# Altium schematic symbol library JLCPCB_RES_SMD_Basic.SchLib: 104 symbols (part 1 of 2)
Pins are listed as number, name and electrical type; pins without a type are passive.

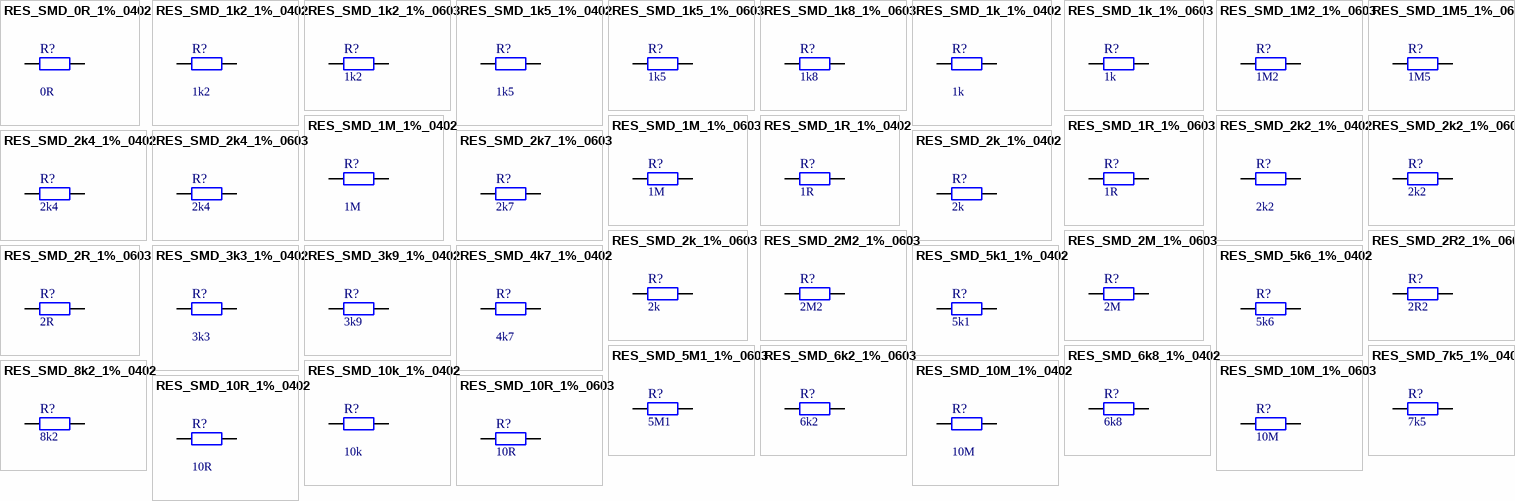
[diagram p0: symbols RES_SMD_0R_1%_0402 to RES_SMD_10R_1%_0603]

## RES_SMD_0R_1%_0402
designator R?, comment value 0R  (hidden comment: basic)
0Ohms ±1% 1/16W 0402 Chip Resistor - Surface Mount RoHS; MFR_Part#: 0402WGF0000TCE; MFR_Name: Uniroyal Elec; Voltage: max: 50V; In stock: Yes; Voltage: overvoltage: 100V; Rated current of jumper: 1A; Rated current max of jumper: 2A; ComponentLink1Description: Datasheet; ComponentLink1URL: https://datasheet.lcsc.com/szlcsc/Uniroyal-Elec-0402WGF0000TCE_C17168.pdf; Power rating: 1/16W; LCSC_Part#: C17168; Tolerance: 1%; Package: 0402
footprint RES_0402_REFLOW (Chip Resistor, 2-Leads, Body 1,00x0,50mm, IPC Medium Density)
pins: 1, 2

## RES_SMD_1k2_1%_0402
designator R?, comment value 1k2  (hidden comment: basic)
1.2kOhms ±1% 1/16W 0402 Chip Resistor - Surface Mount RoHS; MFR_Part#: 0402WGF1201TCE; MFR_Name: Uniroyal Elec; Voltage: max: 50V; In stock: Yes; Voltage: overvoltage: 100V; Rated current of jumper: 1A; Rated current max of jumper: 2A; ComponentLink1Description: Datasheet; ComponentLink1URL: https://datasheet.lcsc.com/szlcsc/Uniroyal-Elec-0402WGF1201TCE_C25862.pdf; Power rating: 1/16W; Tolerance: 1%; Package: 0402; LCSC_Part#: C25862
footprint RES_0402_REFLOW (Chip Resistor, 2-Leads, Body 1,00x0,50mm, IPC Medium Density)
pins: 1, 2

## RES_SMD_1k2_1%_0603
designator R?, comment value 1k2  (hidden comment: basic)
1.2kOhms ±1% 1/10W 0603 Chip Resistor - Surface Mount RoHS; MFR_Part#: 0603WAF1201T5E; MFR_Name: Uniroyal Elec; Voltage: max: 50V; In stock: Yes; Voltage: overvoltage: 100V; Rated current of jumper: 1A; Rated current max of jumper: 2A; ComponentLink1Description: Datasheet; ComponentLink1URL: https://datasheet.lcsc.com/szlcsc/Uniroyal-Elec-0603WAF1201T5E_C22765.pdf; Power rating: 1/10W; Tolerance: 1%; Package: 0603; LCSC_Part#: C22765
footprint RES_0603_REFLOW (Chip Resistor, 2-Leads, Body 1,55x0,85mm, IPC Medium Density)
pins: 1, 2

## RES_SMD_1k5_1%_0402
designator R?, comment value 1k5  (hidden comment: basic)
1.5kOhms ±1% 1/16W 0402 Chip Resistor - Surface Mount RoHS; MFR_Part#: 0402WGF1501TCE; MFR_Name: Uniroyal Elec; Voltage: max: 50V; In stock: Yes; Voltage: overvoltage: 100V; Rated current of jumper: 1A; Rated current max of jumper: 2A; ComponentLink1Description: Datasheet; ComponentLink1URL: https://datasheet.lcsc.com/szlcsc/Uniroyal-Elec-0402WGF1501TCE_C25867.pdf; Power rating: 1/16W; Tolerance: 1%; Package: 0402; LCSC_Part#: C25867
footprint RES_0402_REFLOW (Chip Resistor, 2-Leads, Body 1,00x0,50mm, IPC Medium Density)
pins: 1, 2

## RES_SMD_1k5_1%_0603
designator R?, comment value 1k5  (hidden comment: basic)
1.5kOhms ±1% 1/10W 0603 Chip Resistor - Surface Mount RoHS; MFR_Part#: 0603WAF1501T5E; MFR_Name: Uniroyal Elec; Voltage: max: 50V; In stock: Yes; Voltage: overvoltage: 100V; Rated current of jumper: 1A; Rated current max of jumper: 2A; ComponentLink1Description: Datasheet; ComponentLink1URL: https://datasheet.lcsc.com/szlcsc/Uniroyal-Elec-0603WAF1501T5E_C22843.pdf; Power rating: 1/10W; Tolerance: 1%; Package: 0603; LCSC_Part#: C22843
footprint RES_0603_REFLOW (Chip Resistor, 2-Leads, Body 1,55x0,85mm, IPC Medium Density)
pins: 1, 2

## RES_SMD_1k8_1%_0603
designator R?, comment value 1k8  (hidden comment: basic)
1.8Ohms ±1% 1/10W 0603 Chip Resistor - Surface Mount RoHS; MFR_Part#: 0603WAF1801T5E; MFR_Name: Uniroyal Elec; Voltage: max: 50V; In stock: Yes; Voltage: overvoltage: 100V; Rated current of jumper: 1A; Rated current max of jumper: 2A; ComponentLink1Description: Datasheet; ComponentLink1URL: https://datasheet.lcsc.com/szlcsc/Uniroyal-Elec-0603WAF1801T5E_C4177.pdf; Power rating: 1/10W; Tolerance: 1%; Package: 0603; LCSC_Part#: C4177
footprint RES_0603_REFLOW (Chip Resistor, 2-Leads, Body 1,55x0,85mm, IPC Medium Density)
pins: 1, 2

## RES_SMD_1k_1%_0402
designator R?, comment value 1k  (hidden comment: basic)
1kOhms ±1% 1/16W 0402 Chip Resistor - Surface Mount RoHS; MFR_Part#: 0402WGF1001TCE; MFR_Name: Uniroyal Elec; Voltage: max: 50V; In stock: Yes; Voltage: overvoltage: 100V; Rated current of jumper: 1A; Rated current max of jumper: 2A; ComponentLink1Description: Datasheet; ComponentLink1URL: https://datasheet.lcsc.com/szlcsc/Uniroyal-Elec-0402WGF1001TCE_C11702.pdf; Power rating: 1/16W; Tolerance: 1%; Package: 0402; LCSC_Part#: C11702
footprint RES_0402_REFLOW (Chip Resistor, 2-Leads, Body 1,00x0,50mm, IPC Medium Density)
pins: 1, 2

## RES_SMD_1k_1%_0603
designator R?, comment value 1k  (hidden comment: basic)
1kOhms ±1% 1/10W 0603 Chip Resistor - Surface Mount RoHS; MFR_Part#: 0603WAF1001T5E; MFR_Name: Uniroyal Elec; Voltage: max: 50V; In stock: Yes; Voltage: overvoltage: 100V; Rated current of jumper: 1A; Rated current max of jumper: 2A; ComponentLink1Description: Datasheet; ComponentLink1URL: https://datasheet.lcsc.com/szlcsc/Uniroyal-Elec-0603WAF1001T5E_C21190.pdf; Power rating: 1/10W; Tolerance: 1%; Package: 0603; LCSC_Part#: C21190
footprint RES_0603_REFLOW (Chip Resistor, 2-Leads, Body 1,55x0,85mm, IPC Medium Density)
pins: 1, 2

## RES_SMD_1M2_1%_0603
designator R?, comment value 1M2  (hidden comment: basic)
1.2MOhms ±1% 1/10W 0603 Chip Resistor - Surface Mount RoHS; MFR_Part#: 0603WAF1204T5E; MFR_Name: Uniroyal Elec; Voltage: max: 50V; In stock: Yes; Voltage: overvoltage: 100V; Rated current of jumper: 1A; Rated current max of jumper: 2A; ComponentLink1Description: Datasheet; ComponentLink1URL: https://datasheet.lcsc.com/szlcsc/Uniroyal-Elec-0603WAF1204T5E_C22766.pdf; Power rating: 1/10W; Tolerance: 1%; Package: 0603; LCSC_Part#: C22766
footprint RES_0603_REFLOW (Chip Resistor, 2-Leads, Body 1,55x0,85mm, IPC Medium Density)
pins: 1, 2

## RES_SMD_1M5_1%_0603
designator R?, comment value 1M5  (hidden comment: basic)
1.5MOhms ±1% 1/10W 0603 Chip Resistor - Surface Mount RoHS; MFR_Part#: 0603WAF1504T5E; MFR_Name: Uniroyal Elec; Voltage: max: 50V; In stock: Yes; Voltage: overvoltage: 100V; Rated current of jumper: 1A; Rated current max of jumper: 2A; ComponentLink1Description: Datasheet; ComponentLink1URL: https://datasheet.lcsc.com/szlcsc/Uniroyal-Elec-0603WAF1504T5E_C4172.pdf; Power rating: 1/10W; Tolerance: 1%; Package: 0603; LCSC_Part#: C4172
footprint RES_0603_REFLOW (Chip Resistor, 2-Leads, Body 1,55x0,85mm, IPC Medium Density)
pins: 1, 2

## RES_SMD_1M_1%_0402
designator R?, comment value 1M  (hidden comment: basic)
1MOhms ±1% 1/16W 0402 Chip Resistor - Surface Mount RoHS; MFR_Part#: 0402WGF1004TCE; MFR_Name: Uniroyal Elec; Voltage: max: 50V; In stock: Yes; Voltage: overvoltage: 100V; Rated current of jumper: 1A; Rated current max of jumper: 2A; ComponentLink1Description: Datasheet; ComponentLink1URL: https://datasheet.lcsc.com/szlcsc/Uniroyal-Elec-0402WGF1004TCE_C26083.pdf; Power rating: 1/16W; Tolerance: 1%; Package: 0402; LCSC_Part#: C26083
footprint RES_0402_REFLOW (Chip Resistor, 2-Leads, Body 1,00x0,50mm, IPC Medium Density)
pins: 1, 2

## RES_SMD_1M_1%_0603
designator R?, comment value 1M  (hidden comment: basic)
1MOhms ±1% 1/10W 0603 Chip Resistor - Surface Mount RoHS; MFR_Part#: 0603WAF1004T5E; MFR_Name: Uniroyal Elec; Voltage: max: 50V; In stock: Yes; Voltage: overvoltage: 100V; Rated current of jumper: 1A; Rated current max of jumper: 2A; ComponentLink1Description: Datasheet; ComponentLink1URL: https://datasheet.lcsc.com/szlcsc/Uniroyal-Elec-0603WAF1004T5E_C22935.pdf; Power rating: 1/10W; Tolerance: 1%; Package: 0603; LCSC_Part#: C22935
footprint RES_0603_REFLOW (Chip Resistor, 2-Leads, Body 1,55x0,85mm, IPC Medium Density)
pins: 1, 2

## RES_SMD_1R_1%_0402
designator R?, comment value 1R  (hidden comment: basic)
1Ohms ±1% 1/16W 0402 Chip Resistor - Surface Mount RoHS; MFR_Part#: 0402WGF100KTCE; MFR_Name: Uniroyal Elec; Voltage: max: 50V; In stock: Yes; Voltage: overvoltage: 100V; Rated current of jumper: 1A; Rated current max of jumper: 2A; ComponentLink1Description: Datasheet; ComponentLink1URL: https://datasheet.lcsc.com/szlcsc/Uniroyal-Elec-0402WGF100KTCE_C25086.pdf; Power rating: 1/16W; Tolerance: 1%; Package: 0402; LCSC_Part#: C25086
footprint RES_0402_REFLOW (Chip Resistor, 2-Leads, Body 1,00x0,50mm, IPC Medium Density)
pins: 1, 2

## RES_SMD_1R_1%_0603
designator R?, comment value 1R  (hidden comment: basic)
1Ohms ±1% 1/10W 0603 Chip Resistor - Surface Mount RoHS; MFR_Part#: 0603WAF100KT5E; MFR_Name: Uniroyal Elec; Voltage: max: 50V; In stock: Yes; Voltage: overvoltage: 100V; Rated current of jumper: 1A; Rated current max of jumper: 2A; ComponentLink1Description: Datasheet; ComponentLink1URL: https://datasheet.lcsc.com/szlcsc/Uniroyal-Elec-0603WAF100KT5E_C22936.pdf; Power rating: 1/10W; Tolerance: 1%; Package: 0603; LCSC_Part#: C22936
footprint RES_0603_REFLOW (Chip Resistor, 2-Leads, Body 1,55x0,85mm, IPC Medium Density)
pins: 1, 2

## RES_SMD_2k2_1%_0402
designator R?, comment value 2k2  (hidden comment: basic)
2.2kOhms ±1% 1/16W 0402 Chip Resistor - Surface Mount RoHS; MFR_Part#: 0402WGF2201TCE; MFR_Name: Uniroyal Elec; Voltage: max: 50V; In stock: Yes; Voltage: overvoltage: 100V; Rated current of jumper: 1A; Rated current max of jumper: 2A; ComponentLink1Description: Datasheet; ComponentLink1URL: https://datasheet.lcsc.com/szlcsc/Uniroyal-Elec-0402WGF2201TCE_C25879.pdf; Power rating: 1/16W; Tolerance: 1%; Package: 0402; LCSC_Part#: C25879
footprint RES_0402_REFLOW (Chip Resistor, 2-Leads, Body 1,00x0,50mm, IPC Medium Density)
pins: 1, 2

## RES_SMD_2k2_1%_0603
designator R?, comment value 2k2  (hidden comment: basic)
2.2kOhms ±1% 1/10W 0603 Chip Resistor - Surface Mount RoHS; MFR_Part#: 0603WAF2201T5E; MFR_Name: Uniroyal Elec; Voltage: max: 50V; In stock: Yes; Voltage: overvoltage: 100V; Rated current of jumper: 1A; Rated current max of jumper: 2A; ComponentLink1Description: Datasheet; ComponentLink1URL: https://datasheet.lcsc.com/szlcsc/Uniroyal-Elec-0603WAF2201T5E_C4190.pdf; Power rating: 1/10W; Tolerance: 1%; Package: 0603; LCSC_Part#: C4190
footprint RES_0603_REFLOW (Chip Resistor, 2-Leads, Body 1,55x0,85mm, IPC Medium Density)
pins: 1, 2

## RES_SMD_2k4_1%_0402
designator R?, comment value 2k4  (hidden comment: basic)
2.4Ohms ±1% 1/16W 0402 Chip Resistor - Surface Mount RoHS; MFR_Part#: 0402WGF2401TCE; MFR_Name: Uniroyal Elec; Voltage: max: 50V; In stock: Yes; Voltage: overvoltage: 100V; Rated current of jumper: 1A; Rated current max of jumper: 2A; ComponentLink1Description: Datasheet; ComponentLink1URL: https://datasheet.lcsc.com/szlcsc/Uniroyal-Elec-0402WGF2401TCE_C25882.pdf; Power rating: 1/16W; Tolerance: 1%; Package: 0402; LCSC_Part#: C25882
footprint RES_0402_REFLOW (Chip Resistor, 2-Leads, Body 1,00x0,50mm, IPC Medium Density)
pins: 1, 2

## RES_SMD_2k4_1%_0603
designator R?, comment value 2k4  (hidden comment: basic)
2.4kOhms ±1% 1/10W 0603 Chip Resistor - Surface Mount RoHS; MFR_Part#: 0603WAF2401T5E; MFR_Name: Uniroyal Elec; Voltage: max: 50V; In stock: Yes; Voltage: overvoltage: 100V; Rated current of jumper: 1A; Rated current max of jumper: 2A; ComponentLink1Description: Datasheet; ComponentLink1URL: https://datasheet.lcsc.com/szlcsc/Uniroyal-Elec-0603WAF2401T5E_C22940.pdf; Power rating: 1/10W; Tolerance: 1%; Package: 0603; LCSC_Part#: C22940
footprint RES_0603_REFLOW (Chip Resistor, 2-Leads, Body 1,55x0,85mm, IPC Medium Density)
pins: 1, 2

## RES_SMD_2k7_1%_0603
designator R?, comment value 2k7  (hidden comment: basic)
2.7kOhms ±1% 1/10W 0603 Chip Resistor - Surface Mount RoHS; MFR_Part#: 0603WAF2701T5E; MFR_Name: Uniroyal Elec; Voltage: max: 50V; In stock: Yes; Voltage: overvoltage: 100V; Rated current of jumper: 1A; Rated current max of jumper: 2A; ComponentLink1Description: Datasheet; ComponentLink1URL: https://datasheet.lcsc.com/szlcsc/Uniroyal-Elec-0603WAF2701T5E_C13167.pdf; Power rating: 1/10W; Tolerance: 1%; Package: 0603; LCSC_Part#: C13167
footprint RES_0603_REFLOW (Chip Resistor, 2-Leads, Body 1,55x0,85mm, IPC Medium Density)
pins: 1, 2

## RES_SMD_2k_1%_0402
designator R?, comment value 2k  (hidden comment: basic)
2kOhms ±1% 1/16W 0402 Chip Resistor - Surface Mount RoHS; MFR_Part#: 0402WGF2001TCE; MFR_Name: Uniroyal Elec; Voltage: max: 50V; In stock: Yes; Voltage: overvoltage: 100V; Rated current of jumper: 1A; Rated current max of jumper: 2A; ComponentLink1Description: Datasheet; ComponentLink1URL: https://datasheet.lcsc.com/szlcsc/Uniroyal-Elec-0402WGF2001TCE_C4109.pdf; Power rating: 1/16W; Tolerance: 1%; Package: 0402; LCSC_Part#: C4109
footprint RES_0402_REFLOW (Chip Resistor, 2-Leads, Body 1,00x0,50mm, IPC Medium Density)
pins: 1, 2

## RES_SMD_2k_1%_0603
designator R?, comment value 2k  (hidden comment: basic)
2kOhms ±1% 1/10W 0603 Chip Resistor - Surface Mount RoHS; MFR_Part#: 0603WAF2001T5E; MFR_Name: Uniroyal Elec; Voltage: max: 50V; In stock: Yes; Voltage: overvoltage: 100V; Rated current of jumper: 1A; Rated current max of jumper: 2A; ComponentLink1Description: Datasheet; ComponentLink1URL: https://datasheet.lcsc.com/szlcsc/Uniroyal-Elec-0603WAF2001T5E_C22975.pdf; Power rating: 1/10W; Tolerance: 1%; Package: 0603; LCSC_Part#: C22975
footprint RES_0603_REFLOW (Chip Resistor, 2-Leads, Body 1,55x0,85mm, IPC Medium Density)
pins: 1, 2

## RES_SMD_2M2_1%_0603
designator R?, comment value 2M2  (hidden comment: basic)
2.2MOhms ±1% 1/10W 0603 Chip Resistor - Surface Mount RoHS; MFR_Part#: 0603WAF2204T5E; MFR_Name: Uniroyal Elec; Voltage: max: 50V; In stock: Yes; Voltage: overvoltage: 100V; Rated current of jumper: 1A; Rated current max of jumper: 2A; ComponentLink1Description: Datasheet; ComponentLink1URL: https://datasheet.lcsc.com/szlcsc/Uniroyal-Elec-0603WAF2204T5E_C22938.pdf; Power rating: 1/10W; Tolerance: 1%; Package: 0603; LCSC_Part#: C22938
footprint RES_0603_REFLOW (Chip Resistor, 2-Leads, Body 1,55x0,85mm, IPC Medium Density)
pins: 1, 2

## RES_SMD_2M_1%_0603
designator R?, comment value 2M  (hidden comment: basic)
2MOhms ±1% 1/10W 0603 Chip Resistor - Surface Mount RoHS; MFR_Part#: 0603WAF2004T5E; MFR_Name: Uniroyal Elec; Voltage: max: 50V; In stock: Yes; Voltage: overvoltage: 100V; Rated current of jumper: 1A; Rated current max of jumper: 2A; ComponentLink1Description: Datasheet; ComponentLink1URL: https://datasheet.lcsc.com/szlcsc/Uniroyal-Elec-0603WAF2004T5E_C22976.pdf; Power rating: 1/10W; Tolerance: 1%; Package: 0603; LCSC_Part#: C22976
footprint RES_0603_REFLOW (Chip Resistor, 2-Leads, Body 1,55x0,85mm, IPC Medium Density)
pins: 1, 2

## RES_SMD_2R2_1%_0603
designator R?, comment value 2R2  (hidden comment: basic)
2.2Ohms ±1% 1/10W 0603 Chip Resistor - Surface Mount RoHS; MFR_Part#: 0603WAF220KT5E; MFR_Name: Uniroyal Elec; Voltage: max: 50V; In stock: Yes; Voltage: overvoltage: 100V; Rated current of jumper: 1A; Rated current max of jumper: 2A; ComponentLink1Description: Datasheet; ComponentLink1URL: https://datasheet.lcsc.com/szlcsc/Uniroyal-Elec-0603WAF220KT5E_C22939.pdf; Power rating: 1/10W; Tolerance: 1%; Package: 0603; LCSC_Part#: C22939
footprint RES_0603_REFLOW (Chip Resistor, 2-Leads, Body 1,55x0,85mm, IPC Medium Density)
pins: 1, 2

## RES_SMD_2R_1%_0603
designator R?, comment value 2R  (hidden comment: basic)
2Ohms ±1% 1/10W 0603 Chip Resistor - Surface Mount RoHS; MFR_Part#: 0603WAF200KT5E; MFR_Name: Uniroyal Elec; Voltage: max: 50V; In stock: Yes; Voltage: overvoltage: 100V; Rated current of jumper: 1A; Rated current max of jumper: 2A; ComponentLink1Description: Datasheet; ComponentLink1URL: https://datasheet.lcsc.com/szlcsc/Uniroyal-Elec-0603WAF200KT5E_C22977.pdf; Power rating: 1/10W; Tolerance: 1%; Package: 0603; LCSC_Part#: C22977
footprint RES_0603_REFLOW (Chip Resistor, 2-Leads, Body 1,55x0,85mm, IPC Medium Density)
pins: 1, 2

## RES_SMD_3k3_1%_0402
designator R?, comment value 3k3  (hidden comment: basic)
3.3kOhms ±1% 1/16W 0402 Chip Resistor - Surface Mount RoHS; MFR_Part#: 0402WGF3301TCE; MFR_Name: Uniroyal Elec; Voltage: max: 50V; In stock: Yes; Voltage: overvoltage: 100V; Rated current of jumper: 1A; Rated current max of jumper: 2A; ComponentLink1Description: Datasheet; ComponentLink1URL: https://datasheet.lcsc.com/szlcsc/Uniroyal-Elec-0402WGF3301TCE_C25890.pdf; Power rating: 1/16W; Tolerance: 1%; Package: 0402; LCSC_Part#: C25890
footprint RES_0402_REFLOW (Chip Resistor, 2-Leads, Body 1,00x0,50mm, IPC Medium Density)
pins: 1, 2

## RES_SMD_3k9_1%_0402
designator R?, comment value 3k9  (hidden comment: basic)
3.9kOhms ±1% 1/16W 0402 Chip Resistor - Surface Mount RoHS; MFR_Part#: 0402WGF3901TCE; MFR_Name: Uniroyal Elec; Voltage: max: 50V; In stock: Yes; Voltage: overvoltage: 100V; Rated current of jumper: 1A; Rated current max of jumper: 2A; ComponentLink1Description: Datasheet; ComponentLink1URL: https://datasheet.lcsc.com/szlcsc/Uniroyal-Elec-0402WGF3901TCE_C51721.pdf; Power rating: 1/16W; Tolerance: 1%; Package: 0402; LCSC_Part#: C51721
footprint RES_0402_REFLOW (Chip Resistor, 2-Leads, Body 1,00x0,50mm, IPC Medium Density)
pins: 1, 2

## RES_SMD_4k7_1%_0402
designator R?, comment value 4k7  (hidden comment: basic)
4.7kOhms ±1% 1/16W 0402 Chip Resistor - Surface Mount RoHS; MFR_Part#: 0402WGF4701TCE; MFR_Name: Uniroyal Elec; Voltage: max: 50V; In stock: Yes; Voltage: overvoltage: 100V; Rated current of jumper: 1A; Rated current max of jumper: 2A; ComponentLink1Description: Datasheet; ComponentLink1URL: https://datasheet.lcsc.com/szlcsc/Uniroyal-Elec-0402WGF4701TCE_C25900.pdf; Power rating: 1/16W; Tolerance: 1%; Package: 0402; LCSC_Part#: C25900
footprint RES_0402_REFLOW (Chip Resistor, 2-Leads, Body 1,00x0,50mm, IPC Medium Density)
pins: 1, 2

## RES_SMD_5k1_1%_0402
designator R?, comment value 5k1  (hidden comment: basic)
5.1kOhms ±1% 1/16W 0402 Chip Resistor - Surface Mount RoHS; MFR_Part#: 0402WGF5101TCE; MFR_Name: Uniroyal Elec; Voltage: max: 50V; In stock: Yes; Voltage: overvoltage: 100V; Rated current of jumper: 1A; Rated current max of jumper: 2A; ComponentLink1Description: Datasheet; ComponentLink1URL: https://datasheet.lcsc.com/szlcsc/Uniroyal-Elec-0402WGF5101TCE_C25905.pdf; Power rating: 1/16W; Tolerance: 1%; Package: 0402; LCSC_Part#: C25905
footprint RES_0402_REFLOW (Chip Resistor, 2-Leads, Body 1,00x0,50mm, IPC Medium Density)
pins: 1, 2

## RES_SMD_5k6_1%_0402
designator R?, comment value 5k6  (hidden comment: basic)
5.6kOhms ±1% 1/16W 0402 Chip Resistor - Surface Mount RoHS; MFR_Part#: 0402WGF5601TCE; MFR_Name: Uniroyal Elec; Voltage: max: 50V; In stock: Yes; Voltage: overvoltage: 100V; Rated current of jumper: 1A; Rated current max of jumper: 2A; ComponentLink1Description: Datasheet; ComponentLink1URL: https://datasheet.lcsc.com/szlcsc/Uniroyal-Elec-0402WGF5601TCE_C25908.pdf; Power rating: 1/16W; Tolerance: 1%; Package: 0402; LCSC_Part#: C25908
footprint RES_0402_REFLOW (Chip Resistor, 2-Leads, Body 1,00x0,50mm, IPC Medium Density)
pins: 1, 2

## RES_SMD_5M1_1%_0603
designator R?, comment value 5M1  (hidden comment: basic)
5.1MOhms ±1% 1/10W 0603 Chip Resistor - Surface Mount RoHS; MFR_Part#: 0603WAF5104T5E; MFR_Name: Uniroyal Elec; Voltage: max: 50V; In stock: Yes; Voltage: overvoltage: 100V; Rated current of jumper: 1A; Rated current max of jumper: 2A; ComponentLink1Description: Datasheet; ComponentLink1URL: https://datasheet.lcsc.com/szlcsc/Uniroyal-Elec-0603WAF5104T5E_C13320.pdf; Power rating: 1/10W; Tolerance: 1%; Package: 0603; LCSC_Part#: C13320
footprint RES_0603_REFLOW (Chip Resistor, 2-Leads, Body 1,55x0,85mm, IPC Medium Density)
pins: 1, 2

## RES_SMD_6k2_1%_0603
designator R?, comment value 6k2  (hidden comment: basic)
6.2kOhms ±1% 1/10W 0603 Chip Resistor - Surface Mount RoHS; MFR_Part#: 0603WAF6201T5E; MFR_Name: Uniroyal Elec; Voltage: max: 50V; In stock: Yes; Voltage: overvoltage: 100V; Rated current of jumper: 1A; Rated current max of jumper: 2A; ComponentLink1Description: Datasheet; ComponentLink1URL: https://datasheet.lcsc.com/szlcsc/Uniroyal-Elec-0603WAF6201T5E_C4260.pdf; Power rating: 1/10W; Tolerance: 1%; Package: 0603; LCSC_Part#: C4260
footprint RES_0603_REFLOW (Chip Resistor, 2-Leads, Body 1,55x0,85mm, IPC Medium Density)
pins: 1, 2

## RES_SMD_6k8_1%_0402
designator R?, comment value 6k8  (hidden comment: basic)
6.8kOhms ±1% 1/16W 0402 Chip Resistor - Surface Mount RoHS; MFR_Part#: 0402WGF6801TCE; MFR_Name: Uniroyal Elec; Voltage: max: 50V; In stock: Yes; Voltage: overvoltage: 100V; Rated current of jumper: 1A; Rated current max of jumper: 2A; ComponentLink1Description: Datasheet; ComponentLink1URL: https://datasheet.lcsc.com/szlcsc/Uniroyal-Elec-0402WGF6801TCE_C25917.pdf; Power rating: 1/16W; Tolerance: 1%; Package: 0402; LCSC_Part#: C25917
footprint RES_0402_REFLOW (Chip Resistor, 2-Leads, Body 1,00x0,50mm, IPC Medium Density)
pins: 1, 2

## RES_SMD_7k5_1%_0402
designator R?, comment value 7k5  (hidden comment: basic)
7.5kOhms ±1% 1/16W 0402 Chip Resistor - Surface Mount RoHS; MFR_Part#: 0402WGF7501TCE; MFR_Name: Uniroyal Elec; Voltage: max: 50V; In stock: Yes; Voltage: overvoltage: 100V; Rated current of jumper: 1A; Rated current max of jumper: 2A; ComponentLink1Description: Datasheet; ComponentLink1URL: https://datasheet.lcsc.com/szlcsc/Uniroyal-Elec-0402WGF7501TCE_C25918.pdf; Power rating: 1/16W; Tolerance: 1%; Package: 0402; LCSC_Part#: C25918
footprint RES_0402_REFLOW (Chip Resistor, 2-Leads, Body 1,00x0,50mm, IPC Medium Density)
pins: 1, 2

## RES_SMD_8k2_1%_0402
designator R?, comment value 8k2  (hidden comment: basic)
8.2kOhms ±1% 1/16W 0402 Chip Resistor - Surface Mount RoHS; MFR_Part#: 0402WGF8201TCE; MFR_Name: Uniroyal Elec; Voltage: max: 50V; In stock: Yes; Voltage: overvoltage: 100V; Rated current of jumper: 1A; Rated current max of jumper: 2A; ComponentLink1Description: Datasheet; ComponentLink1URL: https://datasheet.lcsc.com/szlcsc/Uniroyal-Elec-0402WGF8201TCE_C25924.pdf; Power rating: 1/16W; Tolerance: 1%; Package: 0402; LCSC_Part#: C25924
footprint RES_0402_REFLOW (Chip Resistor, 2-Leads, Body 1,00x0,50mm, IPC Medium Density)
pins: 1, 2

## RES_SMD_10k_1%_0402
designator R?, comment value 10k  (hidden comment: basic)
10kOhms ±1% 1/16W 0402 Chip Resistor - Surface Mount RoHS; MFR_Part#: 0402WGF1002TCE; MFR_Name: Uniroyal Elec; Voltage: max: 50V; In stock: Yes; Voltage: overvoltage: 100V; Rated current of jumper: 1A; Rated current max of jumper: 2A; ComponentLink1Description: Datasheet; ComponentLink1URL: https://datasheet.lcsc.com/szlcsc/Uniroyal-Elec-0402WGF1002TCE_C25744.pdf; Power rating: 1/16W; Tolerance: 1%; Package: 0402; LCSC_Part#: C25744
footprint RES_0402_REFLOW (Chip Resistor, 2-Leads, Body 1,00x0,50mm, IPC Medium Density)
pins: 1, 2

## RES_SMD_10M_1%_0402
designator R?, comment value 10M  (hidden comment: basic)
10MOhms ±1% 1/16W 0402 Chip Resistor - Surface Mount RoHS; MFR_Part#: 0402WGF1005TCE; MFR_Name: Uniroyal Elec; Voltage: max: 50V; In stock: Yes; Voltage: overvoltage: 100V; Rated current of jumper: 1A; Rated current max of jumper: 2A; ComponentLink1Description: Datasheet; ComponentLink1URL: https://datasheet.lcsc.com/szlcsc/Uniroyal-Elec-0402WGF1005TCE_C26082.pdf; Power rating: 1/16W; Tolerance: 1%; Package: 0402; LCSC_Part#: C26082
footprint RES_0402_REFLOW (Chip Resistor, 2-Leads, Body 1,00x0,50mm, IPC Medium Density)
pins: 1, 2

## RES_SMD_10M_1%_0603
designator R?, comment value 10M  (hidden comment: basic)
10MOhms ±1% 1/10W 0603 Chip Resistor - Surface Mount RoHS; MFR_Part#: 0603WAF1005T5E; MFR_Name: Uniroyal Elec; Voltage: max: 50V; In stock: Yes; Voltage: overvoltage: 100V; Rated current of jumper: 1A; Rated current max of jumper: 2A; ComponentLink1Description: Datasheet; ComponentLink1URL: https://datasheet.lcsc.com/szlcsc/Uniroyal-Elec-0603WAF1005T5E_C7250.pdf; Power rating: 1/10W; Tolerance: 1%; Package: 0603; LCSC_Part#: C7250
footprint RES_0603_REFLOW (Chip Resistor, 2-Leads, Body 1,55x0,85mm, IPC Medium Density)
pins: 1, 2

## RES_SMD_10R_1%_0402
designator R?, comment value 10R  (hidden comment: basic)
10Ohms ±1% 1/16W 0402 Chip Resistor - Surface Mount RoHS; MFR_Part#: 0402WGF100JTCE; MFR_Name: Uniroyal Elec; Voltage: max: 50V; In stock: Yes; Voltage: overvoltage: 100V; Rated current of jumper: 1A; Rated current max of jumper: 2A; ComponentLink1Description: Datasheet; ComponentLink1URL: https://datasheet.lcsc.com/szlcsc/Uniroyal-Elec-0402WGF100JTCE_C25077.pdf; Power rating: 1/16W; Tolerance: 1%; Package: 0402; LCSC_Part#: C25077
footprint RES_0402_REFLOW (Chip Resistor, 2-Leads, Body 1,00x0,50mm, IPC Medium Density)
pins: 1, 2

## RES_SMD_10R_1%_0603
designator R?, comment value 10R  (hidden comment: basic)
10Ohms ±1% 1/10W 0603 Chip Resistor - Surface Mount RoHS; MFR_Part#: 0603WAF100JT5E; MFR_Name: Uniroyal Elec; Voltage: max: 50V; In stock: Yes; Voltage: overvoltage: 100V; Rated current of jumper: 1A; Rated current max of jumper: 2A; ComponentLink1Description: Datasheet; ComponentLink1URL: https://datasheet.lcsc.com/szlcsc/Uniroyal-Elec-0603WAF100JT5E_C22859.pdf; Power rating: 1/10W; Tolerance: 1%; Package: 0603; LCSC_Part#: C22859
footprint RES_0603_REFLOW (Chip Resistor, 2-Leads, Body 1,55x0,85mm, IPC Medium Density)
pins: 1, 2

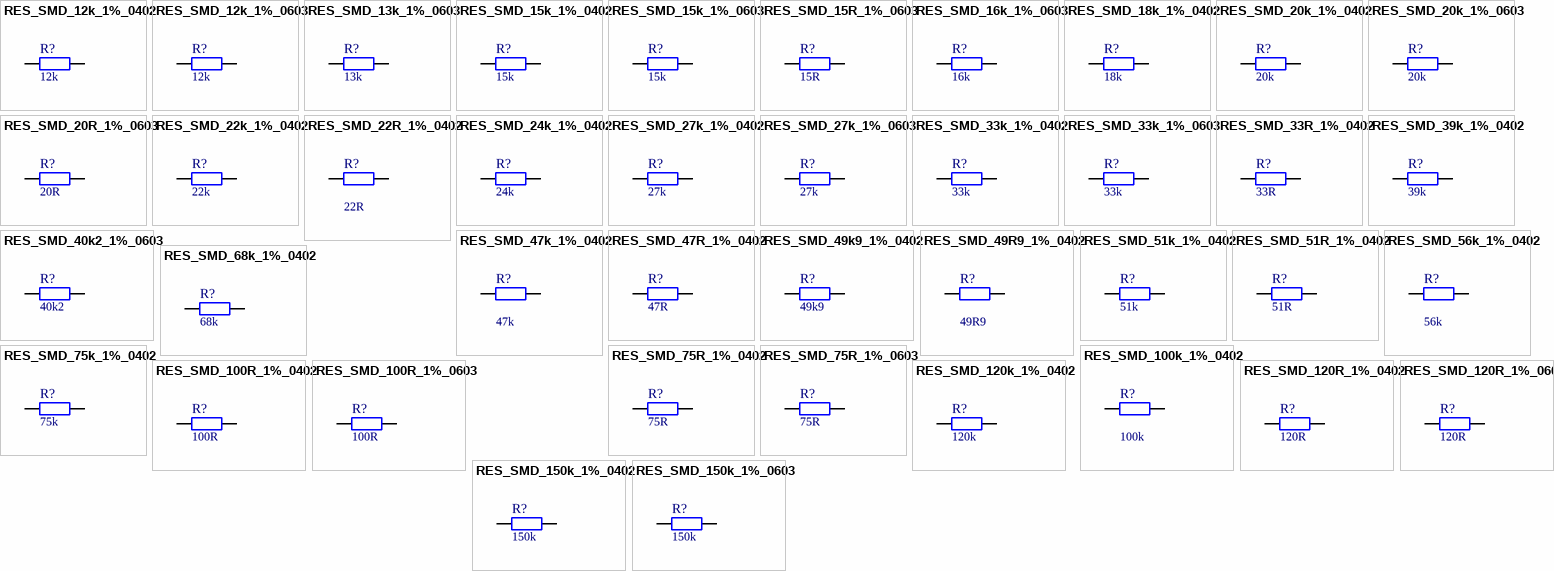
[diagram p1: symbols RES_SMD_12k_1%_0402 to RES_SMD_150k_1%_0603]

## RES_SMD_12k_1%_0402
designator R?, comment value 12k  (hidden comment: basic)
12kOhms ±1% 1/16W 0402 Chip Resistor - Surface Mount RoHS; MFR_Part#: 0402WGF1202TCE; MFR_Name: Uniroyal Elec; Voltage: max: 50V; In stock: Yes; Voltage: overvoltage: 100V; Rated current of jumper: 1A; Rated current max of jumper: 2A; ComponentLink1Description: Datasheet; ComponentLink1URL: https://datasheet.lcsc.com/szlcsc/Uniroyal-Elec-0402WGF1202TCE_C25752.pdf; Power rating: 1/16W; Tolerance: 1%; Package: 0402; LCSC_Part#: C25752
footprint RES_0402_REFLOW (Chip Resistor, 2-Leads, Body 1,00x0,50mm, IPC Medium Density)
pins: 1, 2

## RES_SMD_12k_1%_0603
designator R?, comment value 12k  (hidden comment: basic)
12kOhms ±1% 1/10W 0603 Chip Resistor - Surface Mount RoHS; MFR_Part#: 0603WAF1202T5E; MFR_Name: Uniroyal Elec; Voltage: max: 50V; In stock: Yes; Voltage: overvoltage: 100V; Rated current of jumper: 1A; Rated current max of jumper: 2A; ComponentLink1Description: Datasheet; ComponentLink1URL: https://datasheet.lcsc.com/szlcsc/Uniroyal-Elec-0603WAF1202T5E_C22790.pdf; Power rating: 1/10W; Tolerance: 1%; Package: 0603; LCSC_Part#: C22790
footprint RES_0603_REFLOW (Chip Resistor, 2-Leads, Body 1,55x0,85mm, IPC Medium Density)
pins: 1, 2

## RES_SMD_13k_1%_0603
designator R?, comment value 13k  (hidden comment: basic)
13kOhms ±1% 1/10W 0603 Chip Resistor - Surface Mount RoHS; MFR_Part#: 0603WAF1302T5E; MFR_Name: Uniroyal Elec; Voltage: max: 50V; In stock: Yes; Voltage: overvoltage: 100V; Rated current of jumper: 1A; Rated current max of jumper: 2A; ComponentLink1Description: Datasheet; ComponentLink1URL: https://datasheet.lcsc.com/szlcsc/Uniroyal-Elec-0603WAF1302T5E_C22797.pdf; Power rating: 1/10W; Tolerance: 1%; Package: 0603; LCSC_Part#: C22797
footprint RES_0603_REFLOW (Chip Resistor, 2-Leads, Body 1,55x0,85mm, IPC Medium Density)
pins: 1, 2

## RES_SMD_15k_1%_0402
designator R?, comment value 15k  (hidden comment: basic)
15kOhms ±1% 1/16W 0402 Chip Resistor - Surface Mount RoHS; MFR_Part#: 0402WGF1502TCE; MFR_Name: Uniroyal Elec; Voltage: max: 50V; In stock: Yes; Voltage: overvoltage: 100V; Rated current of jumper: 1A; Rated current max of jumper: 2A; ComponentLink1Description: Datasheet; ComponentLink1URL: https://datasheet.lcsc.com/szlcsc/Uniroyal-Elec-0402WGF1502TCE_C25756.pdf; Power rating: 1/16W; Tolerance: 1%; Package: 0402; LCSC_Part#: C25756
footprint RES_0402_REFLOW (Chip Resistor, 2-Leads, Body 1,00x0,50mm, IPC Medium Density)
pins: 1, 2

## RES_SMD_15k_1%_0603
designator R?, comment value 15k  (hidden comment: basic)
15kOhms ±1% 1/10W 0603 Chip Resistor - Surface Mount RoHS; MFR_Part#: 0603WAF1502T5E; MFR_Name: Uniroyal Elec; Voltage: max: 50V; In stock: Yes; Voltage: overvoltage: 100V; Rated current of jumper: 1A; Rated current max of jumper: 2A; ComponentLink1Description: Datasheet; ComponentLink1URL: https://datasheet.lcsc.com/szlcsc/Uniroyal-Elec-0603WAF1502T5E_C22809.pdf; Power rating: 1/10W; Tolerance: 1%; Package: 0603; LCSC_Part#: C22809
footprint RES_0603_REFLOW (Chip Resistor, 2-Leads, Body 1,55x0,85mm, IPC Medium Density)
pins: 1, 2

## RES_SMD_15R_1%_0603
designator R?, comment value 15R  (hidden comment: basic)
15Ohms ±1% 1/10W 0603 Chip Resistor - Surface Mount RoHS; MFR_Part#: 0603WAF150JT5E; MFR_Name: Uniroyal Elec; Voltage: max: 50V; In stock: Yes; Voltage: overvoltage: 100V; Rated current of jumper: 1A; Rated current max of jumper: 2A; ComponentLink1Description: Datasheet; ComponentLink1URL: https://datasheet.lcsc.com/szlcsc/Uniroyal-Elec-0603WAF150JT5E_C22810.pdf; Power rating: 1/10W; Tolerance: 1%; Package: 0603; LCSC_Part#: C22810
footprint RES_0603_REFLOW (Chip Resistor, 2-Leads, Body 1,55x0,85mm, IPC Medium Density)
pins: 1, 2

## RES_SMD_16k_1%_0603
designator R?, comment value 16k  (hidden comment: basic)
16kOhms ±1% 1/10W 0603 Chip Resistor - Surface Mount RoHS; MFR_Part#: 0603WAF1602T5E; MFR_Name: Uniroyal Elec; Voltage: max: 50V; In stock: Yes; Voltage: overvoltage: 100V; Rated current of jumper: 1A; Rated current max of jumper: 2A; ComponentLink1Description: Datasheet; ComponentLink1URL: https://datasheet.lcsc.com/szlcsc/Uniroyal-Elec-0603WAF1602T5E_C22818.pdf; Power rating: 1/10W; Tolerance: 1%; Package: 0603; LCSC_Part#: C22818
footprint RES_0603_REFLOW (Chip Resistor, 2-Leads, Body 1,55x0,85mm, IPC Medium Density)
pins: 1, 2

## RES_SMD_18k_1%_0402
designator R?, comment value 18k  (hidden comment: basic)
18kOhms ±1% 1/16W 0402 Chip Resistor - Surface Mount RoHS; MFR_Part#: 0402WGF1802TCE; MFR_Name: Uniroyal Elec; Voltage: max: 50V; In stock: Yes; Voltage: overvoltage: 100V; Rated current of jumper: 1A; Rated current max of jumper: 2A; ComponentLink1Description: Datasheet; ComponentLink1URL: https://datasheet.lcsc.com/szlcsc/Uniroyal-Elec-0402WGF1802TCE_C25762.pdf; Power rating: 1/16W; Tolerance: 1%; Package: 0402; LCSC_Part#: C25762
footprint RES_0402_REFLOW (Chip Resistor, 2-Leads, Body 1,00x0,50mm, IPC Medium Density)
pins: 1, 2

## RES_SMD_20k_1%_0402
designator R?, comment value 20k  (hidden comment: basic)
20kOhms ±1% 1/16W 0402 Chip Resistor - Surface Mount RoHS; MFR_Part#: 0402WGF2002TCE; MFR_Name: Uniroyal Elec; Voltage: max: 50V; In stock: Yes; Voltage: overvoltage: 100V; Rated current of jumper: 1A; Rated current max of jumper: 2A; ComponentLink1Description: Datasheet; ComponentLink1URL: https://datasheet.lcsc.com/szlcsc/Uniroyal-Elec-0402WGF2002TCE_C25765.pdf; Power rating: 1/16W; Tolerance: 1%; Package: 0402; LCSC_Part#: C25087
footprint RES_0402_REFLOW (Chip Resistor, 2-Leads, Body 1,00x0,50mm, IPC Medium Density)
pins: 1, 2

## RES_SMD_20k_1%_0603
designator R?, comment value 20k  (hidden comment: basic)
20kOhms ±1% 1/10W 0603 Chip Resistor - Surface Mount RoHS; MFR_Part#: 0603WAF2002T5E; MFR_Name: Uniroyal Elec; Voltage: max: 50V; In stock: Yes; Voltage: overvoltage: 100V; Rated current of jumper: 1A; Rated current max of jumper: 2A; ComponentLink1Description: Datasheet; ComponentLink1URL: https://datasheet.lcsc.com/szlcsc/Uniroyal-Elec-0603WAF2002T5E_C4184.pdf; Power rating: 1/10W; Tolerance: 1%; Package: 0603; LCSC_Part#: C4184
footprint RES_0603_REFLOW (Chip Resistor, 2-Leads, Body 1,55x0,85mm, IPC Medium Density)
pins: 1, 2

## RES_SMD_20R_1%_0603
designator R?, comment value 20R  (hidden comment: basic)
20Ohms ±1% 1/10W 0603 Chip Resistor - Surface Mount RoHS; MFR_Part#: 0603WAF200JT5E; MFR_Name: Uniroyal Elec; Voltage: max: 50V; In stock: Yes; Voltage: overvoltage: 100V; Rated current of jumper: 1A; Rated current max of jumper: 2A; ComponentLink1Description: Datasheet; ComponentLink1URL: https://datasheet.lcsc.com/szlcsc/Uniroyal-Elec-0603WAF200JT5E_C22950.pdf; Power rating: 1/10W; Tolerance: 1%; Package: 0603; LCSC_Part#: C22950
footprint RES_0603_REFLOW (Chip Resistor, 2-Leads, Body 1,55x0,85mm, IPC Medium Density)
pins: 1, 2

## RES_SMD_22k_1%_0402
designator R?, comment value 22k  (hidden comment: basic)
22kOhms ±1% 1/16W 0402 Chip Resistor - Surface Mount RoHS; MFR_Part#: 0402WGF2202TCE; MFR_Name: Uniroyal Elec; Voltage: max: 50V; In stock: Yes; Voltage: overvoltage: 100V; Rated current of jumper: 1A; Rated current max of jumper: 2A; ComponentLink1Description: Datasheet; ComponentLink1URL: https://datasheet.lcsc.com/szlcsc/Uniroyal-Elec-0402WGF2202TCE_C25768.pdf; Power rating: 1/16W; Tolerance: 1%; Package: 0402; LCSC_Part#: C25768
footprint RES_0402_REFLOW (Chip Resistor, 2-Leads, Body 1,00x0,50mm, IPC Medium Density)
pins: 1, 2

## RES_SMD_22R_1%_0402
designator R?, comment value 22R  (hidden comment: basic)
22Ohms ±1% 1/16W 0402 Chip Resistor - Surface Mount RoHS; MFR_Part#: 0402WGF220JTCE; MFR_Name: Uniroyal Elec; Voltage: max: 50V; In stock: Yes; Voltage: overvoltage: 100V; Rated current of jumper: 1A; Rated current max of jumper: 2A; ComponentLink1Description: Datasheet; ComponentLink1URL: https://datasheet.lcsc.com/szlcsc/Uniroyal-Elec-0402WGF220JTCE_C25092.pdf; Power rating: 1/16W; Tolerance: 1%; Package: 0402; LCSC_Part#: C25092
footprint RES_0402_REFLOW (Chip Resistor, 2-Leads, Body 1,00x0,50mm, IPC Medium Density)
pins: 1, 2

## RES_SMD_24k_1%_0402
designator R?, comment value 24k  (hidden comment: basic)
24kOhms ±1% 1/16W 0402 Chip Resistor - Surface Mount RoHS; MFR_Part#: 0402WGF2402TCE; MFR_Name: Uniroyal Elec; Voltage: max: 50V; In stock: Yes; Voltage: overvoltage: 100V; Rated current of jumper: 1A; Rated current max of jumper: 2A; ComponentLink1Description: Datasheet; ComponentLink1URL: https://datasheet.lcsc.com/szlcsc/Uniroyal-Elec-0402WGF2402TCE_C25769.pdf; Power rating: 1/16W; Tolerance: 1%; Package: 0402; LCSC_Part#: C25769
footprint RES_0402_REFLOW (Chip Resistor, 2-Leads, Body 1,00x0,50mm, IPC Medium Density)
pins: 1, 2

## RES_SMD_27k_1%_0402
designator R?, comment value 27k  (hidden comment: basic)
27kOhms ±1% 1/16W 0402 Chip Resistor - Surface Mount RoHS; MFR_Part#: 0402WGF2702TCE; MFR_Name: Uniroyal Elec; Voltage: max: 50V; In stock: Yes; Voltage: overvoltage: 100V; Rated current of jumper: 1A; Rated current max of jumper: 2A; ComponentLink1Description: Datasheet; ComponentLink1URL: https://datasheet.lcsc.com/szlcsc/Uniroyal-Elec-0402WGF2702TCE_C25771.pdf; Power rating: 1/16W; Tolerance: 1%; Package: 0402; LCSC_Part#: C25771
footprint RES_0402_REFLOW (Chip Resistor, 2-Leads, Body 1,00x0,50mm, IPC Medium Density)
pins: 1, 2

## RES_SMD_27k_1%_0603
designator R?, comment value 27k  (hidden comment: basic)
27kOhms ±1% 1/10W 0603 Chip Resistor - Surface Mount RoHS; MFR_Part#: 0603WAF2702T5E; MFR_Name: Uniroyal Elec; Voltage: max: 50V; In stock: Yes; Voltage: overvoltage: 100V; Rated current of jumper: 1A; Rated current max of jumper: 2A; ComponentLink1Description: Datasheet; ComponentLink1URL: https://datasheet.lcsc.com/szlcsc/Uniroyal-Elec-0603WAF2702T5E_C22967.pdf; Power rating: 1/10W; Tolerance: 1%; Package: 0603; LCSC_Part#: C22967
footprint RES_0603_REFLOW (Chip Resistor, 2-Leads, Body 1,55x0,85mm, IPC Medium Density)
pins: 1, 2

## RES_SMD_33k_1%_0402
designator R?, comment value 33k  (hidden comment: basic)
33kOhms ±1% 1/16W 0402 Chip Resistor - Surface Mount RoHS; MFR_Part#: 0402WGF3302TCE; MFR_Name: Uniroyal Elec; Voltage: max: 50V; In stock: Yes; Voltage: overvoltage: 100V; Rated current of jumper: 1A; Rated current max of jumper: 2A; ComponentLink1Description: Datasheet; ComponentLink1URL: https://datasheet.lcsc.com/szlcsc/Uniroyal-Elec-0402WGF3302TCE_C25779.pdf; Power rating: 1/16W; Tolerance: 1%; Package: 0402; LCSC_Part#: C25779
footprint RES_0402_REFLOW (Chip Resistor, 2-Leads, Body 1,00x0,50mm, IPC Medium Density)
pins: 1, 2

## RES_SMD_33k_1%_0603
designator R?, comment value 33k  (hidden comment: basic)
33kOhms ±1% 1/10W 0603 Chip Resistor - Surface Mount RoHS; MFR_Part#: 0603WAF3302T5E; MFR_Name: Uniroyal Elec; Voltage: max: 50V; In stock: Yes; Voltage: overvoltage: 100V; Rated current of jumper: 1A; Rated current max of jumper: 2A; ComponentLink1Description: Datasheet; ComponentLink1URL: https://datasheet.lcsc.com/szlcsc/Uniroyal-Elec-0603WAF3302T5E_C4216.pdf; Power rating: 1/10W; Tolerance: 1%; Package: 0603; LCSC_Part#: C4216
footprint RES_0603_REFLOW (Chip Resistor, 2-Leads, Body 1,55x0,85mm, IPC Medium Density)
pins: 1, 2

## RES_SMD_33R_1%_0402
designator R?, comment value 33R  (hidden comment: basic)
33Ohms ±1% 1/16W 0402 Chip Resistor - Surface Mount RoHS; MFR_Part#: 0402WGF330JTCE; MFR_Name: Uniroyal Elec; Voltage: max: 50V; In stock: Yes; Voltage: overvoltage: 100V; Rated current of jumper: 1A; Rated current max of jumper: 2A; ComponentLink1Description: Datasheet; ComponentLink1URL: https://datasheet.lcsc.com/szlcsc/Uniroyal-Elec-0402WGF330JTCE_C25105.pdf; Power rating: 1/16W; Tolerance: 1%; Package: 0402; LCSC_Part#: C25105
footprint RES_0402_REFLOW (Chip Resistor, 2-Leads, Body 1,00x0,50mm, IPC Medium Density)
pins: 1, 2

## RES_SMD_39k_1%_0402
designator R?, comment value 39k  (hidden comment: basic)
39kOhms ±1% 1/16W 0402 Chip Resistor - Surface Mount RoHS; MFR_Part#: 0402WGF3902TCE; MFR_Name: Uniroyal Elec; Voltage: max: 50V; In stock: Yes; Voltage: overvoltage: 100V; Rated current of jumper: 1A; Rated current max of jumper: 2A; ComponentLink1Description: Datasheet; ComponentLink1URL: https://datasheet.lcsc.com/szlcsc/Uniroyal-Elec-0402WGF3902TCE_C25783.pdf; Power rating: 1/16W; Tolerance: 1%; Package: 0402; LCSC_Part#: C25783
footprint RES_0402_REFLOW (Chip Resistor, 2-Leads, Body 1,00x0,50mm, IPC Medium Density)
pins: 1, 2

## RES_SMD_40k2_1%_0603
designator R?, comment value 40k2  (hidden comment: basic)
40.2kOhms ±1% 1/10W 0603 Chip Resistor - Surface Mount RoHS; MFR_Part#: 0603WAF4022T5E; MFR_Name: Uniroyal Elec; Voltage: max: 50V; In stock: Yes; Voltage: overvoltage: 100V; Rated current of jumper: 1A; Rated current max of jumper: 2A; ComponentLink1Description: Datasheet; ComponentLink1URL: https://datasheet.lcsc.com/szlcsc/Uniroyal-Elec-0603WAF4022T5E_C12447.pdf; Power rating: 1/10W; Tolerance: 1%; Package: 0603; LCSC_Part#: C12447
footprint RES_0603_REFLOW (Chip Resistor, 2-Leads, Body 1,55x0,85mm, IPC Medium Density)
pins: 1, 2

## RES_SMD_47k_1%_0402
designator R?, comment value 47k  (hidden comment: basic)
47kOhms ±1% 1/16W 0402 Chip Resistor - Surface Mount RoHS; MFR_Part#: 0402WGF4702TCE; MFR_Name: Uniroyal Elec; Voltage: max: 50V; In stock: Yes; Voltage: overvoltage: 100V; Rated current of jumper: 1A; Rated current max of jumper: 2A; ComponentLink1Description: Datasheet; ComponentLink1URL: https://datasheet.lcsc.com/szlcsc/Uniroyal-Elec-0402WGF4702TCE_C25792.pdf; Power rating: 1/16W; Tolerance: 1%; Package: 0402; LCSC_Part#: C25792
footprint RES_0402_REFLOW (Chip Resistor, 2-Leads, Body 1,00x0,50mm, IPC Medium Density)
pins: 1, 2

## RES_SMD_47R_1%_0402
designator R?, comment value 47R  (hidden comment: basic)
47Ohms ±1% 1/16W 0402 Chip Resistor - Surface Mount RoHS; MFR_Part#: 0402WGF470JTCE; MFR_Name: Uniroyal Elec; Voltage: max: 50V; In stock: Yes; Voltage: overvoltage: 100V; Rated current of jumper: 1A; Rated current max of jumper: 2A; ComponentLink1Description: Datasheet; ComponentLink1URL: https://datasheet.lcsc.com/szlcsc/Uniroyal-Elec-0402WGF470JTCE_C25118.pdf; Power rating: 1/16W; Tolerance: 1%; Package: 0402; LCSC_Part#: C25118
footprint RES_0402_REFLOW (Chip Resistor, 2-Leads, Body 1,00x0,50mm, IPC Medium Density)
pins: 1, 2

## RES_SMD_49k9_1%_0402
designator R?, comment value 49k9  (hidden comment: basic)
49.9kOhms ±1% 1/16W 0402 Chip Resistor - Surface Mount RoHS; MFR_Part#: 0402WGF4992TCE; MFR_Name: Uniroyal Elec; Voltage: max: 50V; In stock: Yes; Voltage: overvoltage: 100V; Rated current of jumper: 1A; Rated current max of jumper: 2A; ComponentLink1Description: Datasheet; ComponentLink1URL: https://datasheet.lcsc.com/szlcsc/Uniroyal-Elec-0402WGF4992TCE_C25897.pdf; Power rating: 1/16W; Tolerance: 1%; Package: 0402; LCSC_Part#: C25897
footprint RES_0402_REFLOW (Chip Resistor, 2-Leads, Body 1,00x0,50mm, IPC Medium Density)
pins: 1, 2

## RES_SMD_49R9_1%_0402
designator R?, comment value 49R9  (hidden comment: basic)
49.9Ohms ±1% 1/16W 0402 Chip Resistor - Surface Mount RoHS; MFR_Part#: 0402WGF499JTCE; MFR_Name: Uniroyal Elec; Voltage: max: 50V; In stock: Yes; Voltage: overvoltage: 100V; Rated current of jumper: 1A; Rated current max of jumper: 2A; ComponentLink1Description: Datasheet; ComponentLink1URL: https://datasheet.lcsc.com/szlcsc/Uniroyal-Elec-0402WGF499JTCE_C25120.pdf; Power rating: 1/16W; Tolerance: 1%; Package: 0402; LCSC_Part#: C25120
footprint RES_0402_REFLOW (Chip Resistor, 2-Leads, Body 1,00x0,50mm, IPC Medium Density)
pins: 1, 2

## RES_SMD_51k_1%_0402
designator R?, comment value 51k  (hidden comment: basic)
51kOhms ±1% 1/16W 0402 Chip Resistor - Surface Mount RoHS; MFR_Part#: 0402WGF5102TCE; MFR_Name: Uniroyal Elec; Voltage: max: 50V; In stock: Yes; Voltage: overvoltage: 100V; Rated current of jumper: 1A; Rated current max of jumper: 2A; ComponentLink1Description: Datasheet; ComponentLink1URL: https://datasheet.lcsc.com/szlcsc/Uniroyal-Elec-0402WGF5102TCE_C25794.pdf; Power rating: 1/16W; Tolerance: 1%; Package: 0402; LCSC_Part#: C25794
footprint RES_0402_REFLOW (Chip Resistor, 2-Leads, Body 1,00x0,50mm, IPC Medium Density)
pins: 1, 2

## RES_SMD_51R_1%_0402
designator R?, comment value 51R  (hidden comment: basic)
51Ohms ±1% 1/16W 0402 Chip Resistor - Surface Mount RoHS; MFR_Part#: 0402WGF510JTCE; MFR_Name: Uniroyal Elec; Voltage: max: 50V; In stock: Yes; Voltage: overvoltage: 100V; Rated current of jumper: 1A; Rated current max of jumper: 2A; ComponentLink1Description: Datasheet; ComponentLink1URL: https://datasheet.lcsc.com/szlcsc/Uniroyal-Elec-0402WGF510JTCE_C25125.pdf; Power rating: 1/16W; Tolerance: 1%; Package: 0402; LCSC_Part#: C25125
footprint RES_0402_REFLOW (Chip Resistor, 2-Leads, Body 1,00x0,50mm, IPC Medium Density)
pins: 1, 2

## RES_SMD_56k_1%_0402
designator R?, comment value 56k  (hidden comment: basic)
56kOhms ±1% 1/16W 0402 Chip Resistor - Surface Mount RoHS; MFR_Part#: 0402WGF5602TCE; MFR_Name: Uniroyal Elec; Voltage: max: 50V; In stock: Yes; Voltage: overvoltage: 100V; Rated current of jumper: 1A; Rated current max of jumper: 2A; ComponentLink1Description: Datasheet; ComponentLink1URL: https://datasheet.lcsc.com/szlcsc/Uniroyal-Elec-0402WGF5602TCE_C25796.pdf; Power rating: 1/16W; Tolerance: 1%; Package: 0402; LCSC_Part#: C25796
footprint RES_0402_REFLOW (Chip Resistor, 2-Leads, Body 1,00x0,50mm, IPC Medium Density)
pins: 1, 2

## RES_SMD_68k_1%_0402
designator R?, comment value 68k  (hidden comment: basic)
68kOhms ±1% 1/16W 0402 Chip Resistor - Surface Mount RoHS; MFR_Part#: 0402WGF6802TCE; MFR_Name: Uniroyal Elec; Voltage: max: 50V; In stock: Yes; Voltage: overvoltage: 100V; Rated current of jumper: 1A; Rated current max of jumper: 2A; ComponentLink1Description: Datasheet; ComponentLink1URL: https://datasheet.lcsc.com/szlcsc/Uniroyal-Elec-0402WGF6802TCE_C36871.pdf; Power rating: 1/16W; Tolerance: 1%; Package: 0402; LCSC_Part#: C36871
footprint RES_0402_REFLOW (Chip Resistor, 2-Leads, Body 1,00x0,50mm, IPC Medium Density)
pins: 1, 2

## RES_SMD_75k_1%_0402
designator R?, comment value 75k  (hidden comment: basic)
75Ohms ±1% 1/16W 0402 Chip Resistor - Surface Mount RoHS; MFR_Part#: 0402WGF7502TCE; MFR_Name: Uniroyal Elec; Voltage: max: 50V; In stock: Yes; Voltage: overvoltage: 100V; Rated current of jumper: 1A; Rated current max of jumper: 2A; ComponentLink1Description: Datasheet; ComponentLink1URL: https://datasheet.lcsc.com/szlcsc/Uniroyal-Elec-0402WGF7502TCE_C25798.pdf; Power rating: 1/16W; Tolerance: 1%; Package: 0402; LCSC_Part#: C25798
footprint RES_0402_REFLOW (Chip Resistor, 2-Leads, Body 1,00x0,50mm, IPC Medium Density)
pins: 1, 2

## RES_SMD_75R_1%_0402
designator R?, comment value 75R  (hidden comment: basic)
75Ohms ±1% 1/16W 0402 Chip Resistor - Surface Mount RoHS; MFR_Part#: 0402WGF750JTCE; MFR_Name: Uniroyal Elec; Voltage: max: 50V; In stock: Yes; Voltage: overvoltage: 100V; Rated current of jumper: 1A; Rated current max of jumper: 2A; ComponentLink1Description: Datasheet; ComponentLink1URL: https://datasheet.lcsc.com/szlcsc/Uniroyal-Elec-0402WGF750JTCE_C25133.pdf; Power rating: 1/16W; Tolerance: 1%; Package: 0402; LCSC_Part#: C25133
footprint RES_0402_REFLOW (Chip Resistor, 2-Leads, Body 1,00x0,50mm, IPC Medium Density)
pins: 1, 2

## RES_SMD_75R_1%_0603
designator R?, comment value 75R  (hidden comment: basic)
75Ohms ±1% 1/10W 0603 Chip Resistor - Surface Mount RoHS; MFR_Part#: 0603WAF750JT5E; MFR_Name: Uniroyal Elec; Voltage: max: 50V; In stock: Yes; Voltage: overvoltage: 100V; Rated current of jumper: 1A; Rated current max of jumper: 2A; ComponentLink1Description: Datasheet; ComponentLink1URL: https://datasheet.lcsc.com/szlcsc/Uniroyal-Elec-0603WAF750JT5E_C4275.pdf; Power rating: 1/10W; Tolerance: 1%; Package: 0603; LCSC_Part#: C4275
footprint RES_0603_REFLOW (Chip Resistor, 2-Leads, Body 1,55x0,85mm, IPC Medium Density)
pins: 1, 2

## RES_SMD_100k_1%_0402
designator R?, comment value 100k  (hidden comment: basic)
100kOhms ±1% 1/16W 0402 Chip Resistor - Surface Mount RoHS; MFR_Part#: 0402WGF1003TCE; MFR_Name: Uniroyal Elec; Voltage: max: 50V; In stock: Yes; Voltage: overvoltage: 100V; Rated current of jumper: 1A; Rated current max of jumper: 2A; ComponentLink1Description: Datasheet; ComponentLink1URL: https://datasheet.lcsc.com/szlcsc/Uniroyal-Elec-0402WGF1003TCE_C25741.pdf; Power rating: 1/16W; Tolerance: 1%; Package: 0402; LCSC_Part#: C25741
footprint RES_0402_REFLOW (Chip Resistor, 2-Leads, Body 1,00x0,50mm, IPC Medium Density)
pins: 1, 2

## RES_SMD_100R_1%_0402
designator R?, comment value 100R  (hidden comment: basic)
100Ohms ±1% 1/16W 0402 Chip Resistor - Surface Mount RoHS; MFR_Part#: 0402WGF1000TCE; MFR_Name: Uniroyal Elec; Voltage: max: 50V; In stock: Yes; Voltage: overvoltage: 100V; Rated current of jumper: 1A; Rated current max of jumper: 2A; ComponentLink1Description: Datasheet; ComponentLink1URL: https://datasheet.lcsc.com/szlcsc/Uniroyal-Elec-0402WGF1000TCE_C25076.pdf; Power rating: 1/16W; Tolerance: 1%; Package: 0402; LCSC_Part#: C25076
footprint RES_0402_REFLOW (Chip Resistor, 2-Leads, Body 1,00x0,50mm, IPC Medium Density)
pins: 1, 2

## RES_SMD_100R_1%_0603
designator R?, comment value 100R  (hidden comment: basic)
100Ohms ±1% 1/10W 0603 Chip Resistor - Surface Mount RoHS; MFR_Part#: 0603WAF1000T5E; MFR_Name: Uniroyal Elec; Voltage: max: 50V; In stock: Yes; Voltage: overvoltage: 100V; Rated current of jumper: 1A; Rated current max of jumper: 2A; ComponentLink1Description: Datasheet; ComponentLink1URL: https://datasheet.lcsc.com/szlcsc/Uniroyal-Elec-0603WAF1000T5E_C22775.pdf; Power rating: 1/10W; Tolerance: 1%; Package: 0603; LCSC_Part#: C22775
footprint RES_0603_REFLOW (Chip Resistor, 2-Leads, Body 1,55x0,85mm, IPC Medium Density)
pins: 1, 2

## RES_SMD_120k_1%_0402
designator R?, comment value 120k  (hidden comment: basic)
120kOhms ±1% 1/16W 0402 Chip Resistor - Surface Mount RoHS; MFR_Part#: 0402WGF1203TCE; MFR_Name: Uniroyal Elec; Voltage: max: 50V; In stock: Yes; Voltage: overvoltage: 100V; Rated current of jumper: 1A; Rated current max of jumper: 2A; ComponentLink1Description: Datasheet; ComponentLink1URL: https://datasheet.lcsc.com/szlcsc/Uniroyal-Elec-0402WGF1203TCE_C25750.pdf; Power rating: 1/16W; Tolerance: 1%; Package: 0402; LCSC_Part#: C25750
footprint RES_0402_REFLOW (Chip Resistor, 2-Leads, Body 1,00x0,50mm, IPC Medium Density)
pins: 1, 2

## RES_SMD_120R_1%_0402
designator R?, comment value 120R  (hidden comment: basic)
120Ohms ±1% 1/16W 0402 Chip Resistor - Surface Mount RoHS; MFR_Part#: 0402WGF1200TCE; MFR_Name: Uniroyal Elec; Voltage: max: 50V; In stock: Yes; Voltage: overvoltage: 100V; Rated current of jumper: 1A; Rated current max of jumper: 2A; ComponentLink1Description: Datasheet; ComponentLink1URL: https://datasheet.lcsc.com/szlcsc/Uniroyal-Elec-0402WGF1200TCE_C25079.pdf; Power rating: 1/16W; Tolerance: 1%; Package: 0402; LCSC_Part#: C25079
footprint RES_0402_REFLOW (Chip Resistor, 2-Leads, Body 1,00x0,50mm, IPC Medium Density)
pins: 1, 2

## RES_SMD_120R_1%_0603
designator R?, comment value 120R  (hidden comment: basic)
120Ohms ±1% 1/10W 0603 Chip Resistor - Surface Mount RoHS; MFR_Part#: 0603WAF1200T5E; MFR_Name: Uniroyal Elec; Voltage: max: 50V; In stock: Yes; Voltage: overvoltage: 100V; Rated current of jumper: 1A; Rated current max of jumper: 2A; ComponentLink1Description: Datasheet; ComponentLink1URL: https://datasheet.lcsc.com/szlcsc/Uniroyal-Elec-0603WAF1200T5E_C22787.pdf; Power rating: 1/10W; Tolerance: 1%; Package: 0603; LCSC_Part#: C22787
footprint RES_0603_REFLOW (Chip Resistor, 2-Leads, Body 1,55x0,85mm, IPC Medium Density)
pins: 1, 2

## RES_SMD_150k_1%_0402
designator R?, comment value 150k  (hidden comment: basic)
150kOhms ±1% 1/16W 0402 Chip Resistor - Surface Mount RoHS; MFR_Part#: 0402WGF1503TCE; MFR_Name: Uniroyal Elec; Voltage: max: 50V; In stock: Yes; Voltage: overvoltage: 100V; Rated current of jumper: 1A; Rated current max of jumper: 2A; ComponentLink1Description: Datasheet; ComponentLink1URL: https://datasheet.lcsc.com/szlcsc/Uniroyal-Elec-0402WGF1503TCE_C25755.pdf; Power rating: 1/16W; Tolerance: 1%; Package: 0402; LCSC_Part#: C25755
footprint RES_0402_REFLOW (Chip Resistor, 2-Leads, Body 1,00x0,50mm, IPC Medium Density)
pins: 1, 2

## RES_SMD_150k_1%_0603
designator R?, comment value 150k  (hidden comment: basic)
150kOhms ±1% 1/10W 0603 Chip Resistor - Surface Mount RoHS; MFR_Part#: 0603WAF1503T5E; MFR_Name: Uniroyal Elec; Voltage: max: 50V; In stock: Yes; Voltage: overvoltage: 100V; Rated current of jumper: 1A; Rated current max of jumper: 2A; ComponentLink1Description: Datasheet; ComponentLink1URL: https://datasheet.lcsc.com/szlcsc/Uniroyal-Elec-0603WAF1503T5E_C22807.pdf; Power rating: 1/10W; Tolerance: 1%; Package: 0603; LCSC_Part#: C22807
footprint RES_0603_REFLOW (Chip Resistor, 2-Leads, Body 1,55x0,85mm, IPC Medium Density)
pins: 1, 2

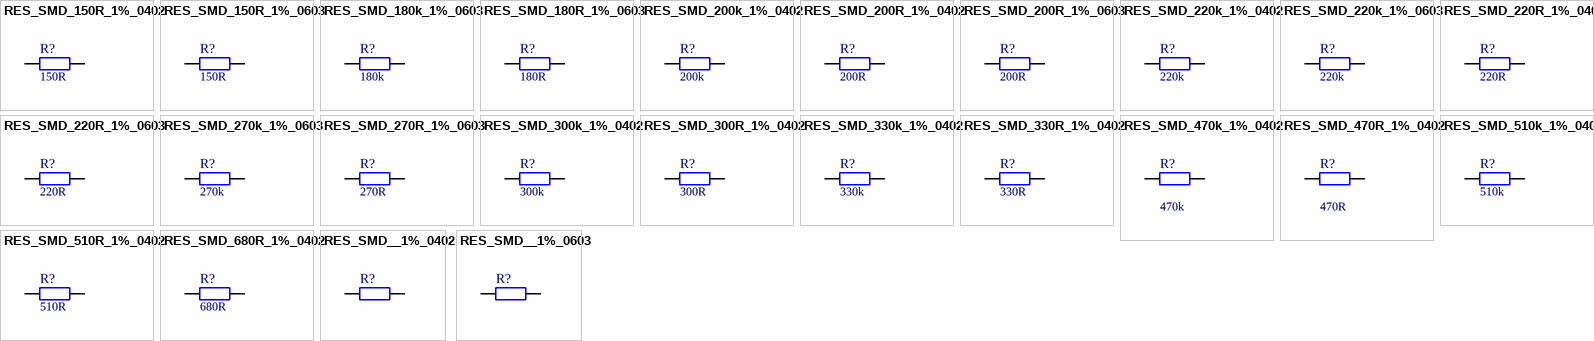
[diagram p2: symbols RES_SMD_150R_1%_0402 to RES_SMD__1%_0603]